# EAGLE library part EXPANDER_II (library sgqparts)
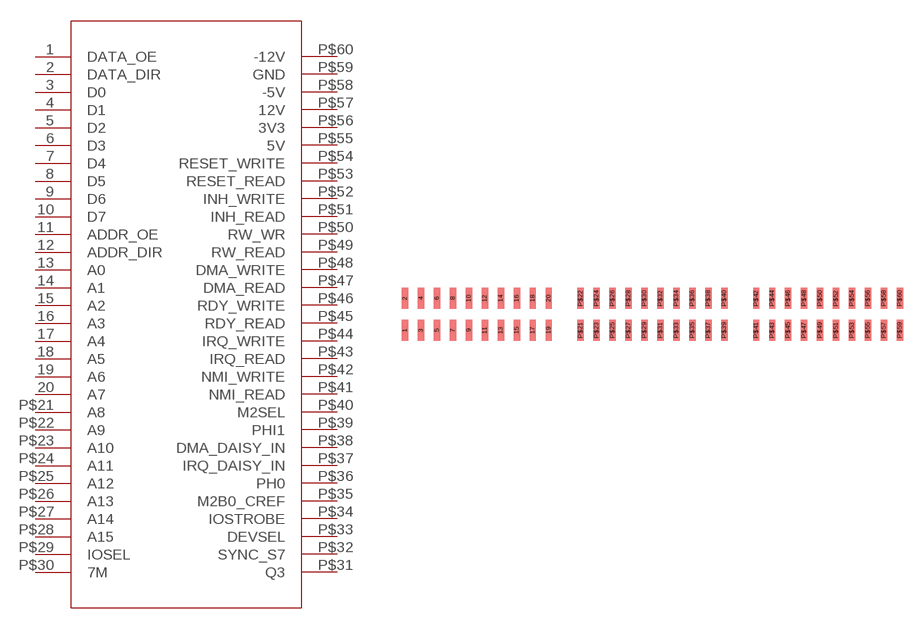
[diagram p4: symbol with the pads of EXPANDERII_SMT; footprint EXPANDERII_SMT]

Designator prefix -

## EXPANDER_IIEXPANDER_II_SMT  [EXPANDERII_SMT]
1  DATA_OE  out
2  DATA_DIR  out
3  D0
4  D1
5  D2
6  D3
7  D4
8  D5
9  D6
10  D7
11  ADDR_OE  out
12  ADDR_DIR  out
13  A0
14  A1
15  A2
16  A3
17  A4
18  A5
19  A6
20  A7
P$21  A8
P$22  A9
P$23  A10
P$24  A11
P$25  A12
P$26  A13
P$27  A14
P$28  A15
P$29  IOSEL  in
P$30  7M  in
P$31  Q3  in
P$32  SYNC_S7  in
P$33  DEVSEL  in
P$34  IOSTROBE
P$35  M2B0_CREF  in
P$36  PH0  in
P$37  IRQ_DAISY_IN  in
P$38  DMA_DAISY_IN  in
P$39  PHI1  in
P$40  M2SEL  in
P$41  NMI_READ  in
P$42  NMI_WRITE  out
P$43  IRQ_READ  in
P$44  IRQ_WRITE  out
P$45  RDY_READ  in
P$46  RDY_WRITE  out
P$47  DMA_READ  in
P$48  DMA_WRITE  out
P$49  RW_READ  in
P$50  RW_WR  out
P$51  INH_READ  in
P$52  INH_WRITE  out
P$53  RESET_READ  in
P$54  RESET_WRITE  out
P$55  5V  pwr
P$56  3V3  pwr
P$57  12V  pwr
P$58  -5V  pwr
P$59  GND  pwr
P$60  -12V  pwr

## Footprint EXPANDERII_SMT (pad centres in mm)
smd 1.016 x 3.302: 1 -39.37,-2.54; 2 -39.37,2.54; 3 -36.83,-2.54; 4 -36.83,2.54; 5 -34.29,-2.54; 6 -34.29,2.54; 7 -31.75,-2.54; 8 -31.75,2.54; 9 -29.21,-2.54; 10 -29.21,2.54; 11 -26.67,-2.54; 12 -26.67,2.54; 13 -24.13,-2.54; 14 -24.13,2.54; 15 -21.59,-2.54; 16 -21.59,2.54; 17 -19.05,-2.54; 18 -19.05,2.54; 19 -16.51,-2.54; 20 -16.51,2.54; P$21 -11.43,-2.54; P$22 -11.43,2.54; P$23 -8.89,-2.54; P$24 -8.89,2.54; P$25 -6.35,-2.54; P$26 -6.35,2.54; P$27 -3.81,-2.54; P$28 -3.81,2.54; P$29 -1.27,-2.54; P$30 -1.27,2.54; P$31 1.27,-2.54; P$32 1.27,2.54; P$33 3.81,-2.54; P$34 3.81,2.54; P$35 6.35,-2.54; P$36 6.35,2.54; P$37 8.89,-2.54; P$38 8.89,2.54; P$39 11.43,-2.54; P$40 11.43,2.54; P$41 16.51,-2.54; P$42 16.51,2.54; P$43 19.05,-2.54; P$44 19.05,2.54; P$45 21.59,-2.54; P$46 21.59,2.54; P$47 24.13,-2.54; P$48 24.13,2.54; P$49 26.67,-2.54; P$50 26.67,2.54; P$51 29.21,-2.54; P$52 29.21,2.54; P$53 31.75,-2.54; P$54 31.75,2.54; P$55 34.29,-2.54; P$56 34.29,2.54; P$57 36.83,-2.54; P$58 36.83,2.54; P$59 39.37,-2.54; P$60 39.37,2.54